# Altium schematic symbol library Generic_Schematic_Symbols.SchLib: 24 symbols
Pins are listed as number, name and electrical type; pins without a type are passive.

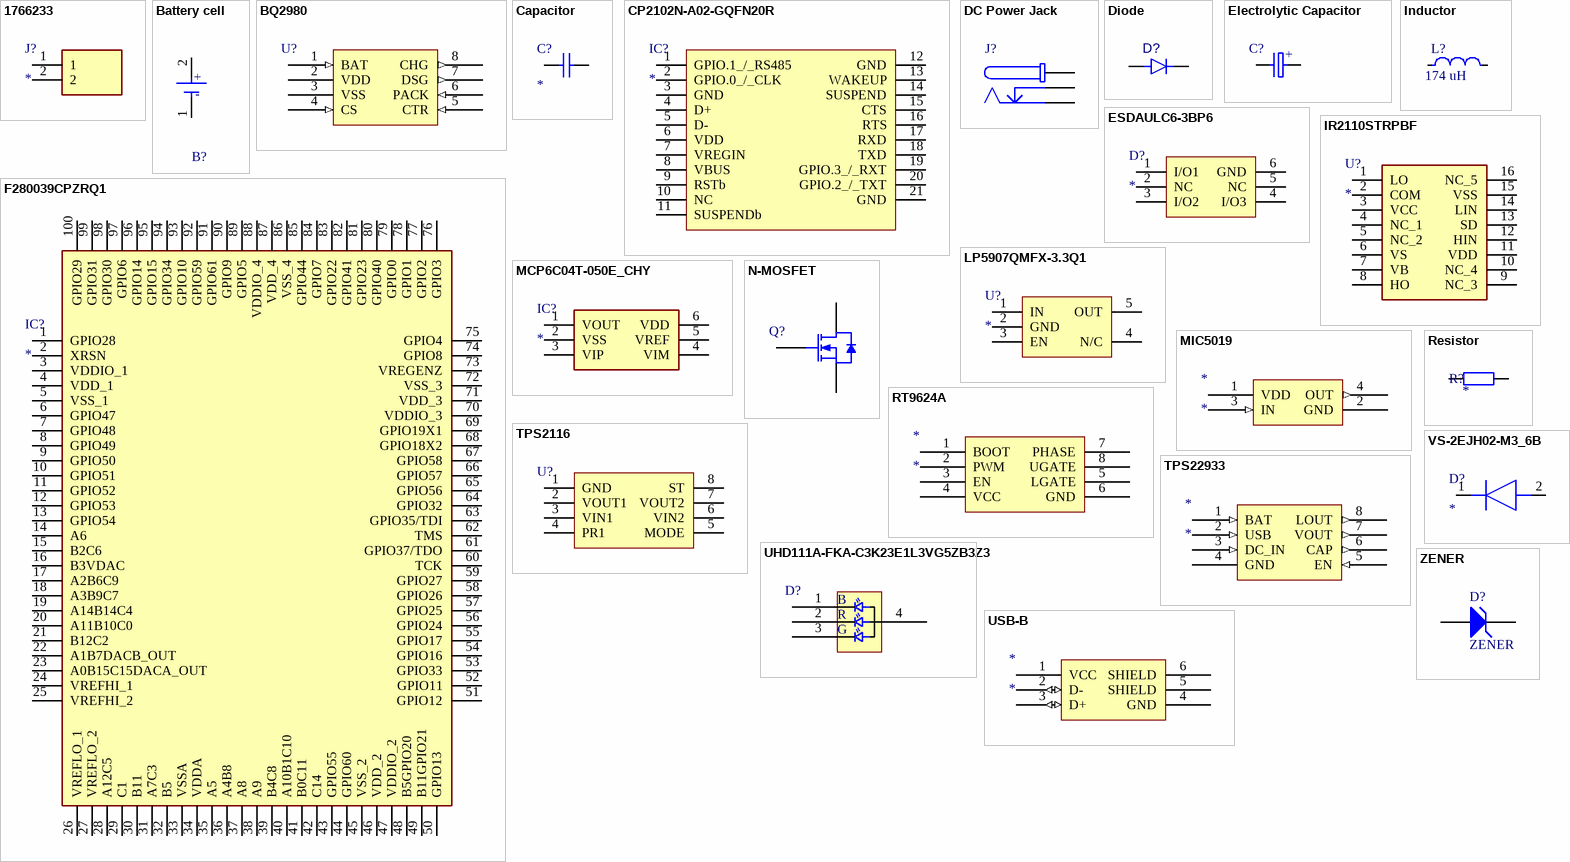
[diagram p0: symbols 1766233 to ZENER]

## 1766233
designator J?
Connector; Manufacturer_Name: Phoenix Contact; Manufacturer_Part_Number: 1766233; Description: PCB header; Datasheet Link: http://www.phoenixcontact.com/de/produkte/1766233/pdf; Height: 7.67mm; Mouser Part Number: 651-1766233; Mouser Price/Stock: https://www.mouser.co.uk/ProductDetail/Phoenix-Contact/1766233?qs=nFvZQsPh5NH5GN9WWXVfYg%3D%3D; Arrow Part Number: 1766233; Arrow Price/Stock: https://www.arrow.com/en/products/1766233/phoenix-contact?region=nac
footprint SHDRRA2W103P0X762_1X2_1524X1200X767P
pins: 1, 2

## Battery cell
designator B?
Single battery cell
pins: 1 C, 2 A
text: +; -

## BQ2980
designator U?
Battery Management High-side protector for single-cell li-ion and li-polymer batteries
pins: 1 BAT (in), 2 VDD (power), 3 VSS, 4 CS (in), 5 CTR (in), 6 PACK (in), 7 DSG (out), 8 CHG (out)

## Capacitor
designator C?
Capacitor; Voltage: *; Value: *
pins: 1, 2

## CP2102N-A02-GQFN20R
designator IC?
Integrated Circuit; Manufacturer_Name: Silicon Labs; Manufacturer_Part_Number: CP2102N-A02-GQFN20R; Datasheet Link: https://www.silabs.com/documents/public/data-sheets/cp2102n-datasheet.pdf; Height: 0.8mm; Mouser Part Number: 634-CP2102NA02QFN20R; Mouser Price/Stock: https://www.mouser.co.uk/ProductDetail/Silicon-Labs/CP2102N-A02-GQFN20R?qs=u16ybLDytRbf2uwPkMBdUg%3D%3D; Arrow Part Number: CP2102N-A02-GQFN20R; Arrow Price/Stock: https://www.arrow.com/en/products/cp2102n-a02-gqfn20r/silicon-labs?utm_currency=USD&region=nac
footprint QFN-20
pins: 1 GPIO.1_/_RS485, 2 GPIO.0_/_CLK, 3 GND, 4 D+, 5 D-, 6 VDD, 7 VREGIN, 8 VBUS, 9 RSTb, 10 NC, 11 SUSPENDb, 12 GND, 13 WAKEUP, 14 SUSPEND, 15 CTS, 16 RTS, 17 RXD, 18 TXD, 19 GPIO.3_/_RXT, 20 GPIO.2_/_TXT, 21 GND

## DC Power Jack
designator J?  (value not drawn)
Circular DC power connector; Manufacturer: Wurth Electronics; Manufacturer Part Number: 694106301002; Connector Type: Circular,Power; Supplier: Rs; Supplier Part Number: 1224879; RoHS: Yes; Category: Power Connectors; Stock: 1650; Contact Finish - Mating: NOT SPECIFIED; Reach SVHC Compliant: Yes; RoHS Compliant: Yes; ComponentLink1URL: https://datasheet.ciiva.com:443/pdfs/VipMasterIC/IC/MIDC/MIDC-S-A0001192814/MIDC-S-A0001192814-1.pdf?src-supplier=IHS+Markit; ComponentLink1Description: https://datasheet.ciiva.com:443/pdfs/VipMasterIC/IC/MIDC/MIDC-S-A0001192814/MIDC-S-A0001192814-1.pdf?src-supplier=IHS+Markit; ComponentLink2URL: http://www.mouser.com/ds/2/445/6941xx301002-469315.pdf?src-supplier=Mouser; ComponentLink2Description: http://www.mouser.com/ds/2/445/6941xx301002-469315.pdf?src-supplier=Mouser; ComponentLink3URL: http://www.farnell.com/cad/2130967.pdf?src-supplier=Element14; ComponentLink3Description: http://www.farnell.com/cad/2130967.pdf?src-supplier=Element14; ComponentLink4URL: https://katalog.we-online.de/em/datasheet/6941xx301002.pdf?src-supplier=Digikey; ComponentLink4Description: https://katalog.we-online.de/em/datasheet/6941xx301002.pdf?src-supplier=Digikey
footprint DC Power Jack Right Angled (DC Power Jack Right Angled(6.4))
pins: 1, 2, 3

## Diode
designator D?
Diode
pins: 1 K, 2 A

## Electrolytic Capacitor
designator C?
Electrolic capacitor; Value: *
pins: 1 C, 2 A
text: +

## ESDAULC6-3BP6
designator D?
TVS Diode (Bi-directional); Manufacturer_Name: STMicroelectronics; Manufacturer_Part_Number: ESDAULC6-3BP6; Datasheet Link: https://www.st.com/resource/en/datasheet/esdaulc6-3bp6.pdf; Height: 0.6mm; Mouser Part Number: 511-ESDAULC63BP6; Mouser Price/Stock: https://www.mouser.co.uk/ProductDetail/STMicroelectronics/ESDAULC6-3BP6?qs=eU2TTeT5rM3P6hIT2KJeMw%3D%3D; Arrow Part Number: ESDAULC6-3BP6; Arrow Price/Stock: https://www.arrow.com/en/products/esdaulc6-3bp6/stmicroelectronics?region=europe
footprint SOT-666
pins: 1 I/O1, 2 NC, 3 I/O2, 4 I/O3, 5 NC, 6 GND

## F280039CPZRQ1
designator IC?
Integrated Circuit; Manufacturer_Name: Texas Instruments; Manufacturer_Part_Number: F280039CPZRQ1; Description: 32-bit Microcontrollers - MCU Automotive C2000 32-bit MCU 120-MHz 384-KB flash; Datasheet Link: https://www.ti.com/lit/ds/symlink/tms320f280039c-q1.pdf?ts=1689761000552&ref_url=https%253A%252F%252Fwww.ti.com%252Fproduct%252FTMS320F280039C-Q1%252Fpart-details%252FF280039CPZQ1; Height: 1.6mm; Mouser Part Number: 595-F280039CPZRQ1; Mouser Price/Stock: https://www.mouser.co.uk/ProductDetail/Texas-Instruments/F280039CPZRQ1?qs=vvQtp7zwQdMSACQiDMJBjQ%3D%3D; Arrow Part Number: F280039CPZRQ1; Arrow Price/Stock: https://www.arrow.com/en/products/f280039cpzrq1/texas-instruments?region=europe
footprint QFP50P1600X1600X160-100N
pins: 1 GPIO28, 2 XRSN, 3 VDDIO_1, 4 VDD_1, 5 VSS_1, 6 GPIO47, 7 GPIO48, 8 GPIO49, 9 GPIO50, 10 GPIO51, 11 GPIO52, 12 GPIO53, 13 GPIO54, 14 A6, 15 B2C6, 16 B3VDAC, 17 A2B6C9, 18 A3B9C7, 19 A14B14C4, 20 A11B10C0, 21 B12C2, 22 A1B7DACB_OUT, 23 A0B15C15DACA_OUT, 24 VREFHI_1, 25 VREFHI_2, 26 VREFLO_1, 27 VREFLO_2, 28 A12C5, 29 C1, 30 B11, 31 A7C3, 32 B5, 33 VSSA, 34 VDDA, 35 A5, 36 A4B8, 37 A8, 38 A9, 39 B4C8, 40 A10B1C10, 41 B0C11, 42 C14, 43 GPIO55, 44 GPIO60, 45 VSS_2, 46 VDD_2, 47 VDDIO_2, 48 B5GPIO20, 49 B11GPIO21, 50 GPIO13, 51 GPIO12, 52 GPIO11, 53 GPIO33, 54 GPIO16, 55 GPIO17, 56 GPIO24, 57 GPIO25, 58 GPIO26, 59 GPIO27, 60 TCK, 61 GPIO37/TDO, 62 TMS, 63 GPIO35/TDI, 64 GPIO32, 65 GPIO56, 66 GPIO57, 67 GPIO58, 68 GPIO18X2, 69 GPIO19X1, 70 VDDIO_3, 71 VDD_3, 72 VSS_3, 73 VREGENZ, 74 GPIO8, 75 GPIO4, 76 GPIO3, 77 GPIO2, 78 GPIO1, 79 GPIO0, 80 GPIO40, 81 GPIO23, 82 GPIO41, 83 GPIO22, 84 GPIO7, 85 GPIO44, 86 VSS_4, 87 VDD_4, 88 VDDIO_4, 89 GPIO5, 90 GPIO9, 91 GPIO61, 92 GPIO59, 93 GPIO10, 94 GPIO34, 95 GPIO15, 96 GPIO14, 97 GPIO6, 98 GPIO30, 99 GPIO31, 100 GPIO29

## Inductor
designator L?  value 174 uH  (hidden comment: Inductor)
Hand made inductance
pins: 1, 2

## IR2110STRPBF
designator U?
HIGH AND LOW SIDE GATE DRIVER; Manufacturer_Name: Infineon; Manufacturer_Part_Number: IR2110STRPBF; Datasheet Link: https://www.infineon.com/cms/en/product/power/gate-driver-ics/?; Height: 2.65mm; Mouser Part Number: 942-IR2110STRPBF; Mouser Price/Stock: https://www.mouser.co.uk/ProductDetail/Infineon-Technologies/IR2110STRPBF?qs=2r01AXMCG3P4pNuJUqFzxg%3D%3D; Arrow Part Number: IR2110STRPBF; Arrow Price/Stock: https://www.arrow.com/en/products/ir2110strpbf/infineon-technologies-ag?region=nac
footprint SOIC127P1032X265-16N
pins: 1 LO, 2 COM, 3 VCC, 4 NC_1, 5 NC_2, 6 VS, 7 VB, 8 HO, 9 NC_3, 10 NC_4, 11 VDD, 12 HIN, 13 SD, 14 LIN, 15 VSS, 16 NC_5

## LP5907QMFX-3.3Q1
designator U?
Integrated Circuit; Manufacturer_Name: Texas Instruments; Manufacturer_Part_Number: LP5907QMFX-3.3Q1; Datasheet Link: http://www.ti.com/lit/gpn/lp5907-q1; Height: 1.45mm; Mouser Part Number: 595-LP5907QMFX-3.3Q1; Mouser Price/Stock: https://www.mouser.co.uk/ProductDetail/Texas-Instruments/LP5907QMFX-3.3Q1?qs=asCBFxFfL1RsL2VYqGFsBQ%3D%3D; Arrow Part Number: LP5907QMFX-3.3Q1; Arrow Price/Stock: https://www.arrow.com/en/products/lp5907qmfx-3.3q1/texas-instruments
footprint SOT95P280X145-5N
pins: 1 IN, 2 GND, 3 EN, 4 N/C, 5 OUT

## MCP6C04T-050E_CHY
designator IC?
Integrated Circuit
footprint SOT23-6
pins: 1 VOUT, 2 VSS, 3 VIP, 4 VIM, 5 VREF, 6 VDD

## MIC5019
designator *
pins: 1 VDD (power), 2 GND, 3 IN (in), 4 OUT (out)

## N-MOSFET
designator Q?  (value not drawn)
N channel MOSFET
pins: 1 G, 2 S, 3 D

## Resistor
designator R?
Resistor; Value: *
pins: 1, 2

## RT9624A
designator *
footprint SOP-8 (SOP/SOIC, 1.27mm, 8 pins)
pins: 1 BOOT, 2 PWM, 3 EN, 4 VCC, 5 LGATE, 6 GND, 7 PHASE, 8 UGATE

## TPS2116
designator U?  (value not drawn)
pins: 1 GND, 2 VOUT1, 3 VIN1, 4 PR1, 5 MODE, 6 VIN2, 7 VOUT2, 8 ST

## TPS22933
designator *
Triple-Input Power Multiplexer With Auto-Select and Low Drop-Out Voltage Regulator
pins: 1 BAT (in), 2 USB (in), 3 DC_IN (in), 4 GND, 5 EN (in), 6 CAP (out), 7 VOUT (out), 8 LOUT (out)

## UHD111A-FKA-C3K23E1L3VG5ZB3Z3
designator D?  (value not drawn)
pins: 1, 2, 3, 4
text: B; R; G

## USB-B
designator *
pins: 1 VCC (power), 2 D- (io), 3 D+ (io), 4 GND, 5 SHIELD, 6 SHIELD

## VS-2EJH02-M3_6B
designator D?
Diode; Manufacturer_Name: Vishay; Manufacturer_Part_Number: VS-2EJH02-M3/6B; Datasheet Link: http://www.vishay.com/docs/94881/vs-2ejh02-m3.pdf; Height: 1mm; Mouser Part Number: 78-VS-2EJH02-M3/6B; Mouser Price/Stock: https://www.mouser.com/Search/Refine.aspx?Keyword=78-VS-2EJH02-M3%2F6B; Arrow Part Number: VS-2EJH02-M3/6B; Arrow Price/Stock: https://www.arrow.com/en/products/vs-2ejh02-m36b/vishay
footprint SODFL5226X100N
pins: 1 K, 2 A

## ZENER
designator D?
Zener Diode; U_Z: 24
signal-integrity model D Zener
footprint FP_SMA (SMA DO-214AC tok)
simulation model ZENER (Zener Diode 24V)
footprint FP_SMB (DO214-AA tok (SMB))
footprint FP_SOD-123
pins: 1 A, 2 K